# Altium footprint library Pedro_pcb_lib.PcbLib: 27 footprints (part 2 of 2)
Each footprint in its own frame and in the unit in brackets; x right, y up, seen from the top. Pads: shape width x height; smd on the part's side, far side on the other; paste and mask are expansions set on the pad; w line width, h text height; cw(c..) or ccw(c..) is an arc to the next point about the centre after c.
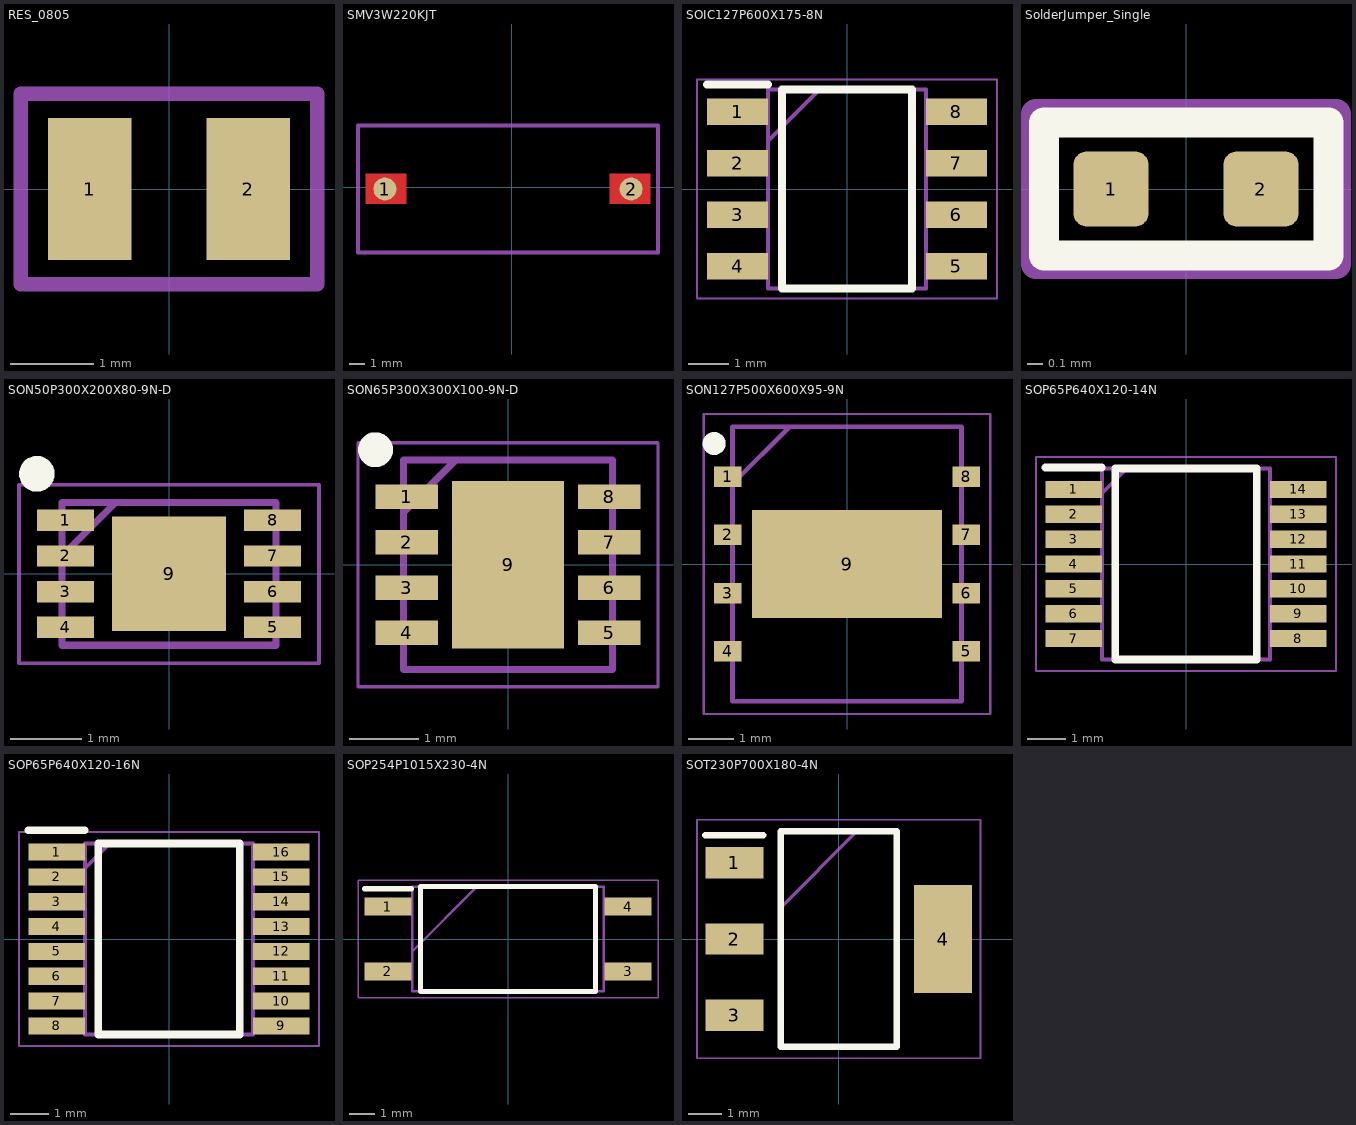
[diagram p1: the footprints below, top view; thin cyan lines are the x and y axes]

## RES_0805 [mm]
pads (2):
  rect 1x1.7 smd: 1(-0.95,0) 2(0.95,0)
Mechanical 13:
  lines w0.175: -1.778,-1.143 1.778,-1.143 1.778,1.143 -1.778,1.143 -1.778,-1.143
  text "'.Designator'" at -5.665,-0.417 h1
3D body "R0805.step": height 0.47, standoff 0.01, extent -1,-0.63 1,0.63

## SMV3W220KJT [mil]
pads (2):
  round 60 smd: 1(-330,-5) 2(310,-5)
Top Layer:
  region: -273.7,-43.74 -273.7,35 -380,35 -380,-43.74
  region: 360,-43.74 360,35 253.7,35 253.7,-43.74
Top Solder:
  region: -269.06,-49.4 -269.06,39.34 -385.36,39.34 -385.36,-49.4
  region: 365,-48.74 365,40 248.7,40 248.7,-48.74
Mechanical 13:
  lines w10: -400,-170 380,-170 380,160 -400,160 -400,-170
  text "'.Designator'" at -223.03,-16.4 h39.37
3D body "2176324-5.stp": height 267.72, standoff 0, extent -344.65,-148.7 324.65,138.7

## SOIC127P600X175-8N [mm]
pads (8):
  rect 1.5x0.65 smd: 1(-2.7,1.905) 2(-2.7,0.635) 3(-2.7,-0.635) 4(-2.7,-1.905) 5(2.7,-1.905) 6(2.7,-0.635) 7(2.7,0.635) 8(2.7,1.905)
Top Overlay:
  lines w0.2: -3.45,2.58 -1.95,2.58 ; -1.6,-2.45 -1.6,2.45 1.6,2.45 1.6,-2.45 -1.6,-2.45
Mechanical 13:
  lines w0.1: -1.95,1.18 -0.68,2.45 ; -1.95,-2.45 -1.95,2.45 1.95,2.45 1.95,-2.45 -1.95,-2.45
Mechanical 15:
  lines w0.05: -3.7,-2.7 -3.7,2.7 3.7,2.7 3.7,-2.7 -3.7,-2.7
3D body "MCP1405-E_SN.stp": height 1.75, standoff 0, extent -3,-2.45 3,2.45

## SolderJumper_Single [mm]
pads (2):
  rrect35% 0.5x0.5 smd mask+0: 1(-0.5,0) 2(0.5,0)
Top Overlay:
  lines w0.2: -0.948,-0.444 -0.948,0.048 -0.948,0.444 0.95,0.444 0.95,-0.444 -0.948,-0.444
Top Solder:
  region: -0.5,0.25 0.5,0.25 0.5,-0.25 -0.5,-0.25
Mechanical 13:
  lines w0.2: -1,-0.5 1,-0.5 1,0.5 -1,0.5 -1,-0.5
  text "'.Designator'" at -5.84,-0.925 h1

## SON50P300X200X80-9N-D [mm]
pads (9):
  rect 0.8x0.3 smd: 1(-1.45,0.75) 2(-1.45,0.25) 3(-1.45,-0.25) 4(-1.45,-0.75) 5(1.45,-0.75) 6(1.45,-0.25) 7(1.45,0.25) 8(1.45,0.75)
  rect 1.6x1.6 smd: 9(0,0)
Top Overlay:
  circle w0.25: c-1.85,1.4 r0.125
Mechanical 13:
  lines w0.1: -1.5,0.25 -0.75,1 ; -1.5,-1 -1.5,1 1.5,1 1.5,-1 -1.5,-1
Mechanical 15:
  lines w0.05: -2.1,-1.25 -2.1,1.25 2.1,1.25 2.1,-1.25 -2.1,-1.25
3D body "MCP16311T-E_MNY.stp": height 0.8, standoff 0, extent -1.55,-1 1.55,1

## SON65P300X300X100-9N-D [mm]
pads (9):
  rect 0.9x0.35 smd: 1(-1.45,0.975) 2(-1.45,0.325) 3(-1.45,-0.325) 4(-1.45,-0.975) 5(1.45,-0.975) 6(1.45,-0.325) 7(1.45,0.325) 8(1.45,0.975)
  rect 1.6x2.4 smd: 9(0,0)
Top Overlay:
  circle w0.25: c-1.9,1.65 r0.125
Mechanical 13:
  lines w0.1: -1.5,0.75 -0.75,1.5 ; -1.5,-1.5 -1.5,1.5 1.5,1.5 1.5,-1.5 -1.5,-1.5
Mechanical 15:
  lines w0.05: -2.15,-1.75 -2.15,1.75 2.15,1.75 2.15,-1.75 -2.15,-1.75
3D body "MCP2542FD-E_MF.stp": height 1, standoff 0, extent -1.55,-1.5 1.55,1.5

## SON127P500X600X95-9N [mm]
pads (9):
  rect 0.6x0.45 smd: 1(-2.6,1.905) 2(-2.6,0.635) 3(-2.6,-0.635) 4(-2.6,-1.905) 5(2.6,-1.905) 6(2.6,-0.635) 7(2.6,0.635) 8(2.6,1.905)
  rect 4.15x2.35 smd: 9(0,0)
Top Overlay:
  circle w0.25: c-2.9,2.63 r0.125
Mechanical 13:
  lines w0.1: -2.5,1.75 -1.25,3 ; -2.5,-3 -2.5,3 2.5,3 2.5,-3 -2.5,-3
Mechanical 15:
  lines w0.05: -3.125,-3.275 -3.125,3.275 3.125,3.275 3.125,-3.275 -3.125,-3.275
3D body "TC4420EMF.stp": height 0.95, standoff 0, extent -2.55,-3 2.55,3

## SOP65P640X120-14N [mm]
pads (14):
  rect 1.475x0.45 smd: 1(-2.938,1.95) 2(-2.938,1.3) 3(-2.938,0.65) 4(-2.938,0) 5(-2.938,-0.65) 6(-2.938,-1.3) 7(-2.938,-1.95) 8(2.938,-1.95) 9(2.938,-1.3) 10(2.938,-0.65) 11(2.938,0) 12(2.938,0.65) 13(2.938,1.3) 14(2.938,1.95)
Top Overlay:
  lines w0.2: -3.675,2.525 -2.2,2.525 ; -1.85,-2.5 -1.85,2.5 1.85,2.5 1.85,-2.5 -1.85,-2.5
Mechanical 13:
  lines w0.1: -2.2,1.85 -1.55,2.5 ; -2.2,-2.5 -2.2,2.5 2.2,2.5 2.2,-2.5 -2.2,-2.5
Mechanical 15:
  lines w0.05: -3.925,-2.8 -3.925,2.8 3.925,2.8 3.925,-2.8 -3.925,-2.8
3D body "MCP2221A-I_ST.stp": height 1.2, standoff 0, extent -3.2,-2.5 3.2,2.5

## SOP65P640X120-16N [mm]
pads (16):
  rect 1.475x0.45 smd: 1(-2.938,2.275) 2(-2.938,1.625) 3(-2.938,0.975) 4(-2.938,0.325) 5(-2.938,-0.325) 6(-2.938,-0.975) 7(-2.938,-1.625) 8(-2.938,-2.275) 9(2.938,-2.275) 10(2.938,-1.625) 11(2.938,-0.975) 12(2.938,-0.325) 13(2.938,0.325) 14(2.938,0.975) 15(2.938,1.625) 16(2.938,2.275)
Top Overlay:
  lines w0.2: -3.675,2.85 -2.2,2.85 ; -1.85,-2.5 -1.85,2.5 1.85,2.5 1.85,-2.5 -1.85,-2.5
Mechanical 13:
  lines w0.1: -2.2,1.85 -1.55,2.5 ; -2.2,-2.5 -2.2,2.5 2.2,2.5 2.2,-2.5 -2.2,-2.5
Mechanical 15:
  lines w0.05: -3.925,-2.8 -3.925,2.8 3.925,2.8 3.925,-2.8 -3.925,-2.8
3D body "MIC4606-2YTS-TR.stp": height 1.2, standoff 0, extent -3.2,-2.5 3.2,2.5

## SOP254P1015X230-4N [mm]
pads (4):
  rect 1.85x0.7 smd: 1(-4.7,1.27) 2(-4.7,-1.27) 3(4.7,-1.27) 4(4.7,1.27)
Top Overlay:
  lines w0.2: -5.625,1.97 -3.775,1.97 ; -3.425,-2.05 -3.425,2.05 3.425,2.05 3.425,-2.05 -3.425,-2.05
Mechanical 13:
  lines w0.1: -3.75,-0.49 -1.21,2.05 ; -3.75,-2.05 -3.75,2.05 3.75,2.05 3.75,-2.05 -3.75,-2.05
Mechanical 15:
  lines w0.05: -5.875,-2.3 -5.875,2.3 5.875,2.3 5.875,-2.3 -5.875,-2.3
3D body "TCLT1003.stp": height 2.2, standoff 0, extent -5.1,-2 5.1,2

## SOT230P700X180-4N [mm]
pads (4):
  rect 1.75x0.95 smd: 1(-3.15,2.3) 2(-3.15,0) 3(-3.15,-2.3)
  rect 1.75x3.25 smd: 4(3.15,0)
Top Overlay:
  lines w0.2: -4.025,3.125 -2.275,3.125 ; -1.75,-3.25 -1.75,3.25 1.75,3.25 1.75,-3.25 -1.75,-3.25
Mechanical 13:
  lines w0.1: -1.75,0.95 0.55,3.25 ; -1.75,-3.25 -1.75,3.25 1.75,3.25 1.75,-3.25 -1.75,-3.25
Mechanical 15:
  lines w0.05: -4.275,-3.6 -4.275,3.6 4.275,3.6 4.275,-3.6 -4.275,-3.6
3D body "MIC5239-3.3YS-TR.stp": height 1.8, standoff 0, extent -3.5,-3.25 3.5,3.25